# Altium footprint library SparkFun-IC-Comms.PCBLIB: 25 footprints (part 2 of 2)
Each footprint in its own frame and in the unit in brackets; x right, y up, seen from the top. Pads: shape width x height; smd on the part's side, far side on the other; paste and mask are expansions set on the pad; w line width, h text height; cw(c..) or ccw(c..) is an arc to the next point about the centre after c.
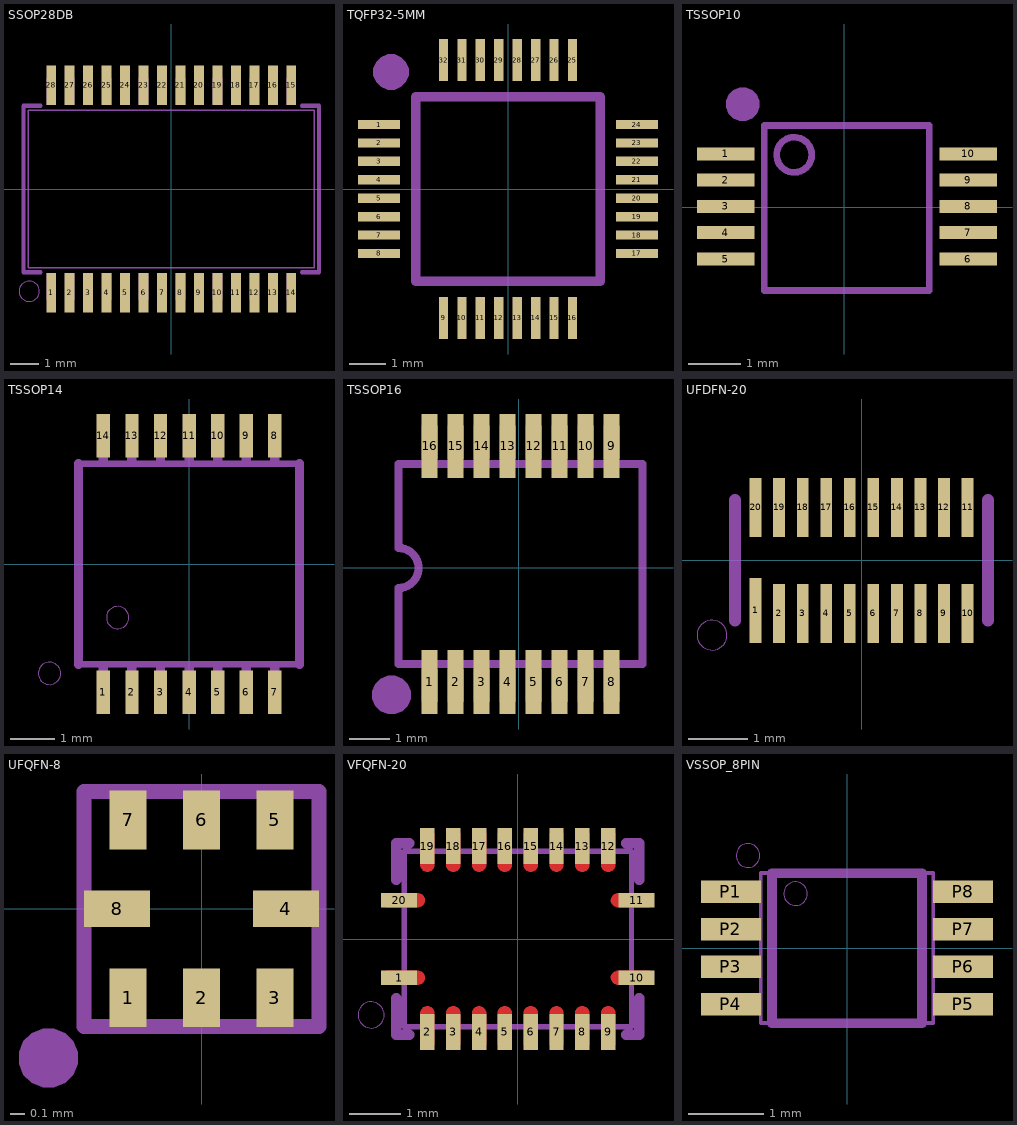
[diagram p1: the footprints below, top view; thin cyan lines are the x and y axes]

## SSOP28DB [mil]
pads (28):
  rect 13.7x55 smd: 1(-166.34,-143.94) 2(-140.75,-143.94) 3(-115.16,-143.94) 4(-89.57,-143.94) 5(-63.98,-143.94) 6(-38.39,-143.94) 7(-12.8,-143.94) 8(12.8,-143.94) 9(38.39,-143.94) 10(63.98,-143.94) 11(89.57,-143.94) 12(115.16,-143.94) 13(140.75,-143.94) 14(166.34,-143.94) 15(166.34,143.94) 16(140.75,143.94) 17(115.16,143.94) 18(89.57,143.94) 19(63.98,143.94) 20(38.39,143.94) 21(12.8,143.94) 22(-12.8,143.94) 23(-38.39,143.94) 24(-63.98,143.94) 25(-89.57,143.94) 26(-115.16,143.94) 27(-140.75,143.94) 28(-166.34,143.94)
tDocu:
  region: -172.74,116.76 -172.74,153.54 -159.94,153.54 -159.94,116.76
  region: -172.74,-153.54 -172.74,-116.76 -159.94,-116.76 -159.94,-153.54
  region: -147.15,-153.54 -147.15,-116.76 -134.35,-116.76 -134.35,-153.54
  region: -121.56,-153.54 -121.56,-116.76 -108.76,-116.76 -108.76,-153.54
  region: -147.15,116.76 -147.15,153.54 -134.35,153.54 -134.35,116.76
  region: -121.56,116.76 -121.56,153.54 -108.76,153.54 -108.76,116.76
  region: -95.96,116.76 -95.96,153.54 -83.17,153.54 -83.17,116.76
  region: -70.37,116.76 -70.37,153.54 -57.58,153.54 -57.58,116.76
  region: -44.78,116.76 -44.78,153.54 -31.99,153.54 -31.99,116.76
  region: -19.19,116.76 -19.19,153.54 -6.4,153.54 -6.4,116.76
  region: 6.4,116.76 6.4,153.54 19.19,153.54 19.19,116.76
  region: 31.99,116.76 31.99,153.54 44.78,153.54 44.78,116.76
  region: 57.58,116.76 57.58,153.54 70.37,153.54 70.37,116.76
  region: 83.17,116.76 83.17,153.54 95.96,153.54 95.96,116.76
  region: 108.76,116.76 108.76,153.54 121.56,153.54 121.56,116.76
  region: 134.35,116.76 134.35,153.54 147.15,153.54 147.15,116.76
  region: 159.94,116.76 159.94,153.54 172.74,153.54 172.74,116.76
  region: -95.96,-153.54 -95.96,-116.76 -83.17,-116.76 -83.17,-153.54
  region: -70.37,-153.54 -70.37,-116.76 -57.58,-116.76 -57.58,-153.54
  region: -44.78,-153.54 -44.78,-116.76 -31.99,-116.76 -31.99,-153.54
  region: -19.19,-153.54 -19.19,-116.76 -6.4,-116.76 -6.4,-153.54
  region: 6.4,-153.54 6.4,-116.76 19.19,-116.76 19.19,-153.54
  region: 31.99,-153.54 31.99,-116.76 44.78,-116.76 44.78,-153.54
  region: 57.58,-153.54 57.58,-116.76 70.37,-116.76 70.37,-153.54
  region: 83.17,-153.54 83.17,-116.76 95.96,-116.76 95.96,-153.54
  region: 108.76,-153.54 108.76,-116.76 121.56,-116.76 121.56,-153.54
  region: 134.35,-153.54 134.35,-116.76 147.15,-116.76 147.15,-153.54
  region: 159.94,-153.54 159.94,-116.76 172.74,-116.76 172.74,-153.54
tValues:
  lines w2: -198.35,-108.78 198.35,-108.78 198.35,108.78 -198.35,108.78 -198.35,-108.78
tPlace:
  circle w0: c-196.85,-141.73 r14.14
  lines w6: -181.1,-115.16 -204.72,-115.16 -204.72,115.16 -181.1,115.16 ; 181.1,-115.16 204.72,-115.16 204.72,115.16 181.1,115.16

## TQFP32-5MM [mil]
pads (32):
  rect 45x10 smd: 1(-137.8,68.9) 2(-137.8,49.21) 3(-137.8,29.53) 4(-137.8,9.84) 5(-137.8,-9.84) 6(-137.8,-29.53) 7(-137.8,-49.21) 8(-137.8,-68.9) 17(137.8,-68.9) 18(137.8,-49.21) 19(137.8,-29.53) 20(137.8,-9.84) 21(137.8,9.84) 22(137.8,29.53) 23(137.8,49.21) 24(137.8,68.9)
  rect 10x45 smd: 9(-68.9,-137.8) 10(-49.21,-137.8) 11(-29.53,-137.8) 12(-9.84,-137.8) 13(9.84,-137.8) 14(29.53,-137.8) 15(49.21,-137.8) 16(68.9,-137.8) 25(68.9,137.8) 26(49.21,137.8) 27(29.53,137.8) 28(9.84,137.8) 29(-9.84,137.8) 30(-29.53,137.8) 31(-49.21,137.8) 32(-68.9,137.8)
tDocu:
  lines w10: -98.43,-98.43 98.43,-98.43 98.43,98.43 -98.43,98.43 -98.43,-98.43
tPlace:
  region: -143.75,125 -143.75,128.73 -140.9,135.62 -135.62,140.9 -128.73,143.75 -125,143.75 -121.27,143.75 -114.38,140.9 -109.1,135.62 -106.25,128.73 -106.25,125 -106.25,121.27 -109.1,114.38 -114.38,109.1 -121.27,106.25 -125,106.25 -128.73,106.25 -135.62,109.1 -140.9,114.38 -143.75,121.27 -143.75,125
  lines w10: -98.43,-98.43 98.43,-98.43 98.43,98.43 -98.43,98.43 -98.43,-98.43

## TSSOP10 [mil]
pads (10):
  rect 43.31x9.84 smd: 1(-88.94,40.06) 2(-88.94,20.37) 3(-88.94,0.69) 4(-88.94,-19) 5(-88.94,-38.88) 6(93.15,-38.88) 7(93.15,-19) 8(93.15,0.69) 9(93.15,20.37) 10(93.15,40.06)
tPlace:
  circle w5: c-37.56,39.47 r13.21
  region: -76.19,65.01 -73.7,65.01 -69.11,66.91 -65.59,70.43 -63.69,75.02 -63.69,77.51 -63.69,80 -65.59,84.59 -69.11,88.11 -73.7,90.01 -76.19,90.01 -78.68,90.01 -83.27,88.11 -86.79,84.59 -88.69,80 -88.69,77.51 -88.69,75.02 -86.79,70.43 -83.27,66.91 -78.68,65.01 -76.19,65.01
  lines w5: -60,-62.5 64.02,-62.5 64.02,61.52 -60,61.52 -60,-62.5

## TSSOP14 [mil]
pads (14):
  rect 12x39 smd: 1(-76.77,-114.87) 2(-51.18,-114.87) 3(-25.59,-114.87) 4(0,-114.87) 5(25.59,-114.87) 6(51.18,-114.87) 7(76.77,-114.87) 8(76.77,114.87) 9(51.18,114.87) 10(25.59,114.87) 11(0,114.87) 12(-25.59,114.87) 13(-51.18,114.87) 14(-76.77,114.87)
tDocu:
  region: -80.77,-122.87 -80.77,-89.87 -72.77,-89.87 -72.77,-122.87
  region: -55.18,-122.87 -55.18,-89.87 -47.18,-89.87 -47.18,-122.87
  region: -29.59,-122.87 -29.59,-89.87 -21.59,-89.87 -21.59,-122.87
  region: -4,-122.87 -4,-89.87 4,-89.87 4,-122.87
  region: 21.59,-122.87 21.59,-89.87 29.59,-89.87 29.59,-122.87
  region: 47.18,-122.87 47.18,-89.87 55.18,-89.87 55.18,-122.87
  region: 72.77,-122.87 72.77,-89.87 80.77,-89.87 80.77,-122.87
  region: 72.77,89.87 72.77,122.87 80.77,122.87 80.77,89.87
  region: 47.18,89.87 47.18,122.87 55.18,122.87 55.18,89.87
  region: 21.59,89.87 21.59,122.87 29.59,122.87 29.59,89.87
  region: -4,89.87 -4,122.87 4,122.87 4,89.87
  region: -29.59,89.87 -29.59,122.87 -21.59,122.87 -21.59,89.87
  region: -55.18,89.87 -55.18,122.87 -47.18,122.87 -47.18,89.87
  region: -80.77,89.87 -80.77,122.87 -72.77,122.87 -72.77,89.87
  lines w6: -99,-89.87 99,-89.87 ; -99,89.87 99,89.87
tPlace:
  circle w0: c-64,-48 r10
  circle w0: c-125,-98 r10
  lines w8: -99,-89.87 -99,89.87 ; 99,-89.87 99,89.87

## TSSOP16 [mil]
pads (16):
  rect 15.75x62.99 smd: 1(-87.6,-112.2) 2(-62.01,-112.2) 3(-36.42,-112.2) 4(-10.83,-112.2) 5(14.76,-112.2) 6(40.35,-112.2) 7(65.94,-112.2) 8(91.54,-112.2) 9(91.54,120.08) 10(65.94,120.08) 11(40.35,120.08) 12(14.76,120.08) 13(-10.83,120.08) 14(-36.42,120.08) 15(-62.01,120.08) 16(-87.6,120.08)
tDocu:
  region: -95.47,-131.89 -95.47,-99.6 -79.72,-99.6 -79.72,-131.89
  region: -69.88,-131.89 -69.88,-99.6 -54.13,-99.6 -54.13,-131.89
  region: -44.29,-131.89 -44.29,-99.6 -28.54,-99.6 -28.54,-131.89
  region: -18.7,-131.89 -18.7,-99.6 -2.95,-99.6 -2.95,-131.89
  region: 6.89,-131.89 6.89,-99.6 22.64,-99.6 22.64,-131.89
  region: 32.48,-131.89 32.48,-99.6 48.23,-99.6 48.23,-131.89
  region: 58.07,-131.89 58.07,-99.6 73.82,-99.6 73.82,-131.89
  region: 83.66,-131.89 83.66,-99.6 99.41,-99.6 99.41,-131.89
  region: 83.66,107.48 83.66,139.77 99.41,139.77 99.41,107.48
  region: 58.07,107.48 58.07,139.77 73.82,139.77 73.82,107.48
  region: 32.48,107.48 32.48,139.77 48.23,139.77 48.23,107.48
  region: 6.89,107.48 6.89,139.77 22.64,139.77 22.64,107.48
  region: -18.7,107.48 -18.7,139.77 -2.95,139.77 -2.95,107.48
  region: -44.29,107.48 -44.29,139.77 -28.54,139.77 -28.54,107.48
  region: -69.88,107.48 -69.88,139.77 -54.13,139.77 -54.13,107.48
  region: -95.47,107.48 -95.47,139.77 -79.72,139.77 -79.72,107.48
  region: -95.47,-131.89 -95.47,-99.6 -79.72,-99.6 -79.72,-131.89
  region: -69.88,-131.89 -69.88,-99.6 -54.13,-99.6 -54.13,-131.89
  region: -44.29,-131.89 -44.29,-99.6 -28.54,-99.6 -28.54,-131.89
  region: -18.7,-131.89 -18.7,-99.6 -2.95,-99.6 -2.95,-131.89
  region: 6.89,-131.89 6.89,-99.6 22.64,-99.6 22.64,-131.89
  region: 32.48,-131.89 32.48,-99.6 48.23,-99.6 48.23,-131.89
  region: 58.07,-131.89 58.07,-99.6 73.82,-99.6 73.82,-131.89
  region: 83.66,-131.89 83.66,-99.6 99.41,-99.6 99.41,-131.89
  region: 83.66,107.48 83.66,139.77 99.41,139.77 99.41,107.48
  region: 58.07,107.48 58.07,139.77 73.82,139.77 73.82,107.48
  region: 32.48,107.48 32.48,139.77 48.23,139.77 48.23,107.48
  region: 6.89,107.48 6.89,139.77 22.64,139.77 22.64,107.48
  region: -18.7,107.48 -18.7,139.77 -2.95,139.77 -2.95,107.48
  region: -44.29,107.48 -44.29,139.77 -28.54,139.77 -28.54,107.48
  region: -69.88,107.48 -69.88,139.77 -54.13,139.77 -54.13,107.48
  region: -95.47,107.48 -95.47,139.77 -79.72,139.77 -79.72,107.48
  lines w8: -118.11,-94.49 122.05,-94.49 122.05,102.36 -118.11,102.36
tPlace:
  region: -143.75,-125 -143.75,-121.27 -140.9,-114.38 -135.62,-109.1 -128.73,-106.25 -125,-106.25 -121.27,-106.25 -114.38,-109.1 -109.1,-114.38 -106.25,-121.27 -106.25,-125 -106.25,-128.73 -109.1,-135.62 -114.38,-140.9 -121.27,-143.75 -125,-143.75 -128.73,-143.75 -135.62,-140.9 -140.9,-135.62 -143.75,-128.73 -143.75,-125
  lines w8: -110.24,-94.49 -118.11,-94.49 -118.11,-19.69 ccw(c-118.11,0) -118.11,19.69 -118.11,102.36 -110.24,102.36 ; 114.17,-94.49 122.05,-94.49 122.05,102.36 114.17,102.36

## UFDFN-20 [mm]
pads (20):
  rect 0.2x1.1 smd paste+0: 1(-1.8,-0.85)
  rect 0.2x1 smd paste+0: 2(-1.4,-0.9) 3(-1,-0.9) 4(-0.6,-0.9) 5(-0.2,-0.9) 6(0.2,-0.9) 7(0.6,-0.9) 8(1,-0.9) 9(1.4,-0.9) 10(1.8,-0.9) 11(1.8,0.9) 12(1.4,0.9) 13(1,0.9) 14(0.6,0.9) 15(0.2,0.9) 16(-0.2,0.9) 17(-0.6,0.9) 18(-1,0.9) 19(-1.4,0.9) 20(-1.8,0.9)
Top Paste:
  region: -1.9,0.5 -1.9,1.3 -1.7,1.3 -1.7,0.5
  region: -1.5,0.5 -1.5,1.3 -1.3,1.3 -1.3,0.5
  region: -1.1,0.5 -1.1,1.3 -0.9,1.3 -0.9,0.5
  region: -0.7,0.5 -0.7,1.3 -0.5,1.3 -0.5,0.5
  region: -0.3,0.5 -0.3,1.3 -0.1,1.3 -0.1,0.5
  region: 0.1,0.5 0.1,1.3 0.3,1.3 0.3,0.5
  region: 0.5,0.5 0.5,1.3 0.7,1.3 0.7,0.5
  region: 0.9,0.5 0.9,1.3 1.1,1.3 1.1,0.5
  region: 1.3,0.5 1.3,1.3 1.5,1.3 1.5,0.5
  region: 1.9,1.3 1.9,0.5 1.7,0.5 1.7,1.3
  region: -1.5,-1.3 -1.5,-0.5 -1.3,-0.5 -1.3,-1.3
  region: -1.1,-1.3 -1.1,-0.5 -0.9,-0.5 -0.9,-1.3
  region: -0.7,-1.3 -0.7,-0.5 -0.5,-0.5 -0.5,-1.3
  region: -0.3,-1.3 -0.3,-0.5 -0.1,-0.5 -0.1,-1.3
  region: 0.1,-1.3 0.1,-0.5 0.3,-0.5 0.3,-1.3
  region: 0.5,-1.3 0.5,-0.5 0.7,-0.5 0.7,-1.3
  region: 0.9,-1.3 0.9,-0.5 1.1,-0.5 1.1,-1.3
  region: 1.3,-1.3 1.3,-0.5 1.5,-0.5 1.5,-1.3
  region: 1.9,-0.5 1.9,-1.3 1.7,-1.3 1.7,-0.5
  region: -1.9,-1.3 -1.9,-0.4 -1.7,-0.4 -1.7,-1.3
tPlace:
  circle w0: c-2.54,-1.27 r0.254
  lines w0.203: -2.15,-1.025 -2.15,1.025 ; 2.15,-1.025 2.15,1.025

## UFQFN-8 [mil]
pads (8):
  rect 9.84x15.75 smd: 1(-19.69,-23.82) 2(0,-23.82) 3(19.69,-23.82) 5(19.69,23.82) 6(0,23.82) 7(-19.69,23.82)
  rect 17.72x9.84 smd: 4(22.64,0) 8(-22.64,0)
tDocu:
  lines w4: -31.5,-31.5 31.5,-31.5 31.5,31.5 -31.5,31.5 -31.5,-31.5
tPlace:
  region: -48.94,-40 -48.94,-41.57 -47.74,-44.46 -45.52,-46.67 -42.63,-47.87 -41.06,-47.87 -39.49,-47.87 -36.6,-46.67 -34.39,-44.46 -33.19,-41.57 -33.19,-40 -33.19,-38.43 -34.39,-35.54 -36.6,-33.33 -39.49,-32.13 -41.06,-32.13 -42.63,-32.13 -45.52,-33.33 -47.74,-35.54 -48.94,-38.43 -48.94,-40

## VFQFN-20 [mil]
pads (20):
  rect 27.56x11.02 smd paste+0 mask+0: 1(-90.55,-29.53) 10(90.55,-29.53) 11(90.55,29.53) 20(-90.55,29.53)
  rect 11.02x27.56 smd paste+0 mask+0: 2(-68.9,-70.87) 3(-49.21,-70.87) 4(-29.53,-70.87) 5(-9.84,-70.87) 6(9.84,-70.87) 7(29.53,-70.87) 8(49.21,-70.87) 9(68.9,-70.87) 12(68.9,70.87) 13(49.21,70.87) 14(29.53,70.87) 15(9.84,70.87) 16(-9.84,70.87) 17(-29.53,70.87) 18(-49.21,70.87) 19(-68.9,70.87)
Top:
  region: -100.39,-24.21 -76.38,-24.21 -75.32,-24.21 -73.37,-25.02 -71.87,-26.52 -71.06,-28.47 -71.06,-29.53 -71.06,-30.59 -71.87,-32.54 -73.37,-34.03 -75.32,-34.84 -76.38,-34.84 -100.39,-34.84
  region: -74.21,-80.71 -74.21,-56.69 -74.21,-55.63 -73.4,-53.68 -71.91,-52.19 -69.96,-51.38 -68.9,-51.38 -67.84,-51.38 -65.89,-52.19 -64.39,-53.68 -63.58,-55.63 -63.58,-56.69 -63.58,-80.71
  region: -54.53,-80.71 -54.53,-56.69 -54.53,-55.63 -53.72,-53.68 -52.22,-52.19 -50.27,-51.38 -49.21,-51.38 -48.15,-51.38 -46.2,-52.19 -44.71,-53.68 -43.9,-55.63 -43.9,-56.69 -43.9,-80.71
  region: -34.84,-80.71 -34.84,-56.69 -34.84,-55.63 -34.03,-53.68 -32.54,-52.19 -30.59,-51.38 -29.53,-51.38 -28.47,-51.38 -26.52,-52.19 -25.02,-53.68 -24.21,-55.63 -24.21,-56.69 -24.21,-80.71
  region: -15.16,-80.71 -15.16,-56.69 -15.16,-55.63 -14.35,-53.68 -12.85,-52.19 -10.9,-51.38 -9.84,-51.38 -8.78,-51.38 -6.83,-52.19 -5.34,-53.68 -4.53,-55.63 -4.53,-56.69 -4.53,-80.71
  region: 4.53,-80.71 4.53,-56.69 4.53,-55.63 5.34,-53.68 6.83,-52.19 8.78,-51.38 9.84,-51.38 10.9,-51.38 12.85,-52.19 14.35,-53.68 15.16,-55.63 15.16,-56.69 15.16,-80.71
  region: 24.21,-80.71 24.21,-56.69 24.21,-55.63 25.02,-53.68 26.52,-52.19 28.47,-51.38 29.53,-51.38 30.59,-51.38 32.54,-52.19 34.03,-53.68 34.84,-55.63 34.84,-56.69 34.84,-80.71
  region: 43.9,-80.71 43.9,-56.69 43.9,-55.63 44.71,-53.68 46.2,-52.19 48.15,-51.38 49.21,-51.38 50.27,-51.38 52.22,-52.19 53.72,-53.68 54.53,-55.63 54.53,-56.69 54.53,-80.71
  region: 63.58,-80.71 63.58,-56.69 63.58,-55.63 64.39,-53.68 65.89,-52.19 67.84,-51.38 68.9,-51.38 69.96,-51.38 71.91,-52.19 73.4,-53.68 74.21,-55.63 74.21,-56.69 74.21,-80.71
  region: 100.39,-34.84 76.38,-34.84 75.32,-34.84 73.37,-34.03 71.87,-32.54 71.06,-30.59 71.06,-29.53 71.06,-28.47 71.87,-26.52 73.37,-25.02 75.32,-24.21 76.38,-24.21 100.39,-24.21
  region: 100.39,24.21 76.38,24.21 75.32,24.21 73.37,25.02 71.87,26.52 71.06,28.47 71.06,29.53 71.06,30.59 71.87,32.54 73.37,34.03 75.32,34.84 76.38,34.84 100.39,34.84
  region: 74.21,80.71 74.21,56.69 74.21,55.63 73.4,53.68 71.91,52.19 69.96,51.38 68.9,51.38 67.84,51.38 65.89,52.19 64.39,53.68 63.58,55.63 63.58,56.69 63.58,80.71
  region: 54.53,80.71 54.53,56.69 54.53,55.63 53.72,53.68 52.22,52.19 50.27,51.38 49.21,51.38 48.15,51.38 46.2,52.19 44.71,53.68 43.9,55.63 43.9,56.69 43.9,80.71
  region: 34.84,80.71 34.84,56.69 34.84,55.63 34.03,53.68 32.54,52.19 30.59,51.38 29.53,51.38 28.47,51.38 26.52,52.19 25.02,53.68 24.21,55.63 24.21,56.69 24.21,80.71
  region: 15.16,80.71 15.16,56.69 15.16,55.63 14.35,53.68 12.85,52.19 10.9,51.38 9.84,51.38 8.78,51.38 6.83,52.19 5.34,53.68 4.53,55.63 4.53,56.69 4.53,80.71
  region: -4.53,80.71 -4.53,56.69 -4.53,55.63 -5.34,53.68 -6.83,52.19 -8.78,51.38 -9.84,51.38 -10.9,51.38 -12.85,52.19 -14.35,53.68 -15.16,55.63 -15.16,56.69 -15.16,80.71
  region: -24.21,80.71 -24.21,56.69 -24.21,55.63 -25.02,53.68 -26.52,52.19 -28.47,51.38 -29.53,51.38 -30.59,51.38 -32.54,52.19 -34.03,53.68 -34.84,55.63 -34.84,56.69 -34.84,80.71
  region: -43.9,80.71 -43.9,56.69 -43.9,55.63 -44.71,53.68 -46.2,52.19 -48.15,51.38 -49.21,51.38 -50.27,51.38 -52.22,52.19 -53.72,53.68 -54.53,55.63 -54.53,56.69 -54.53,80.71
  region: -63.58,80.71 -63.58,56.69 -63.58,55.63 -64.39,53.68 -65.89,52.19 -67.84,51.38 -68.9,51.38 -69.96,51.38 -71.91,52.19 -73.4,53.68 -74.21,55.63 -74.21,56.69 -74.21,80.71
  region: -100.39,34.84 -76.38,34.84 -75.32,34.84 -73.37,34.03 -71.87,32.54 -71.06,30.59 -71.06,29.53 -71.06,28.47 -71.87,26.52 -73.37,25.02 -75.32,24.21 -76.38,24.21 -100.39,24.21
Top Paste:
  drawing of 20 lines, arcs and shapes, not listed
Top Solder:
  drawing of 20 lines, arcs and shapes, not listed
tDocu:
  drawing of 24 lines, arcs and shapes, not listed
tPlace:
  circle w0: c-111.81,-57.87 r10
  lines w8: -92.52,-45.28 -92.52,-72.83 -82.68,-72.83 ; -92.52,45.28 -92.52,72.83 -82.68,72.83 ; 82.68,-72.83 92.52,-72.83 92.52,-45.28 ; 82.68,72.83 92.52,72.83 92.52,45.28

## VSSOP_8PIN [mil]
pads (8):
  rect 31.5x11.81 smd paste+0 mask+0: P1(-61.02,29.53) P2(-61.02,9.84) P3(-61.02,-9.84) P4(-61.02,-29.53) P5(61.02,-29.53) P6(61.02,-9.84) P7(61.02,9.84) P8(61.02,29.53)
Top Paste:
  region: -75.79,24.61 -75.79,34.45 -46.26,34.45 -46.26,24.61
  region: -75.79,4.92 -75.79,14.76 -46.26,14.76 -46.26,4.92
  region: -75.79,-14.76 -75.79,-4.92 -46.26,-4.92 -46.26,-14.76
  region: -75.79,-34.45 -75.79,-24.61 -46.26,-24.61 -46.26,-34.45
  region: 46.26,24.61 46.26,34.45 75.79,34.45 75.79,24.61
  region: 46.26,4.92 46.26,14.76 75.79,14.76 75.79,4.92
  region: 46.26,-14.76 46.26,-4.92 75.79,-4.92 75.79,-14.76
  region: 46.26,-34.45 46.26,-24.61 75.79,-24.61 75.79,-34.45
Top Solder:
  region: -78.74,21.65 -78.74,37.4 -43.31,37.4 -43.31,21.65
  region: -78.74,1.97 -78.74,17.72 -43.31,17.72 -43.31,1.97
  region: -78.74,-17.72 -78.74,-1.97 -43.31,-1.97 -43.31,-17.72
  region: -78.74,-37.4 -78.74,-21.65 -43.31,-21.65 -43.31,-37.4
  region: 43.31,21.65 43.31,37.4 78.74,37.4 78.74,21.65
  region: 43.31,1.97 43.31,17.72 78.74,17.72 78.74,1.97
  region: 43.31,-17.72 43.31,-1.97 78.74,-1.97 78.74,-17.72
  region: 43.31,-37.4 43.31,-21.65 78.74,-21.65 78.74,-37.4
tDocu:
  lines w1.97: -45.28,-39.37 45.28,-39.37 45.28,39.37 -45.28,39.37 -45.28,-39.37
tPlace:
  circle w0: c-51.97,48.58 r6.22
  circle w0: c-26.97,28.58 r6.22
  lines w5: -39.37,-39.37 -39.37,39.37 39.37,39.37 39.37,-39.37 -39.37,-39.37